# EAGLE library part FEEDER_STANDARD_CP2104 (library kxnStandard_interface)
CP2104 - USB to UART Bridge VDD Output: 3.45V
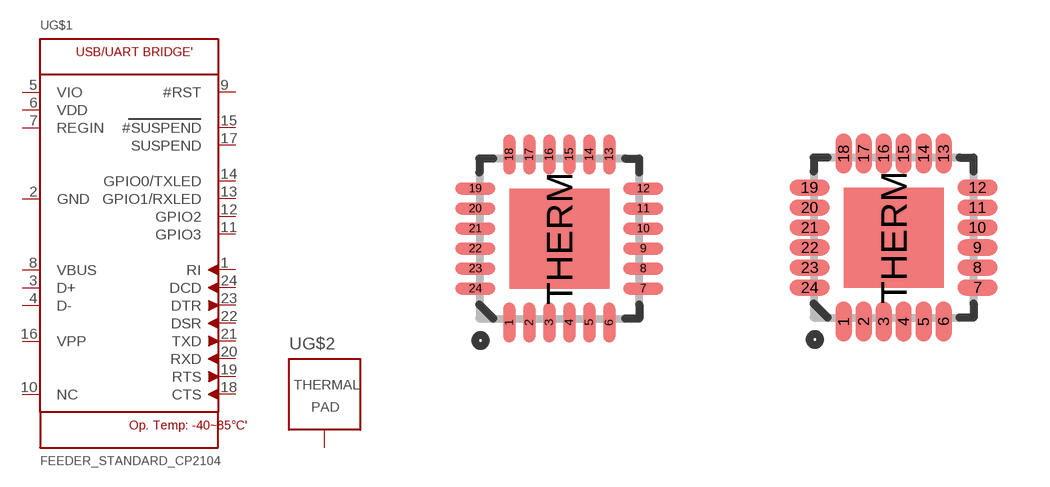
[diagram p1: symbol with the pads of KAYO_FEEDER_QFN24_4MM_SMSC; footprints KAYO_FEEDER_QFN24_4MM_SMSC, KAYO_QFN24_PROTO]

Designator prefix U; gates G$1=MICROBUILDER_CP2104 G$2=MICROBUILDER_THERMAL-SLUG

## FEEDER_STANDARD_CP2104 (CC_SHOP: CongCo)  [KAYO_FEEDER_QFN24_4MM_SMSC]
1  G$1:RI  in
2  G$1:GND  pwr
3  G$1:D+
4  G$1:D-
5  G$1:VIO  pwr
6  G$1:VDD  pwr
7  G$1:REGIN  pwr
8  G$1:VBUS  pwr
9  G$1:#RST
10  G$1:NC  nc
11  G$1:GPIO3
12  G$1:GPIO2
13  G$1:GPIO1/RXLED
14  G$1:GPIO0/TXLED
15  G$1:#SUSPEND  out
16  G$1:VPP
17  G$1:SUSPEND  out
18  G$1:CTS  in
19  G$1:RTS  out
20  G$1:RXD  in
21  G$1:TXD  out
22  G$1:DSR  in
23  G$1:DTR  out
24  G$1:DCD  in
THERM  G$2:TP  pwr

## FEEDER_STANDARD_CP2104_PROTOTYPE (CC_SHOP: CongCo)  [KAYO_QFN24_PROTO]
Pads as for KAYO_FEEDER_QFN24_4MM_SMSC

## Footprint KAYO_FEEDER_QFN24_4MM_SMSC (pad centres in mm)
smd 0.3 x 1: 1 -1.25,-2.1; 2 -0.75,-2.1; 3 -0.25,-2.1; 4 0.25,-2.1; 5 0.75,-2.1; 6 1.25,-2.1; 13 1.25,2.1; 14 0.75,2.1; 15 0.25,2.1; 16 -0.25,2.1; 17 -0.75,2.1; 18 -1.25,2.1
smd 1 x 0.3: 7 2.1,-1.25; 8 2.1,-0.75; 9 2.1,-0.25; 10 2.1,0.25; 11 2.1,0.75; 12 2.1,1.25; 19 -2.1,1.25; 20 -2.1,0.75; 21 -2.1,0.25; 22 -2.1,-0.25; 23 -2.1,-0.75; 24 -2.1,-1.25
smd 2.5 x 2.5: THERM 0,0

## Footprint KAYO_QFN24_PROTO (pad centres in mm)
smd 0.4 x 1: 1 -1.25,-2.1; 2 -0.75,-2.1; 3 -0.25,-2.1; 4 0.25,-2.1; 5 0.75,-2.1; 6 1.25,-2.1; 13 1.25,2.1; 14 0.75,2.1; 15 0.25,2.1; 16 -0.25,2.1; 17 -0.75,2.1; 18 -1.25,2.1
smd 1 x 0.4: 7 2.1,-1.25; 8 2.1,-0.75; 9 2.1,-0.25; 10 2.1,0.25; 11 2.1,0.75; 12 2.1,1.25; 19 -2.1,1.25; 20 -2.1,0.75; 21 -2.1,0.25; 22 -2.1,-0.25; 23 -2.1,-0.75; 24 -2.1,-1.25
smd 2.5 x 2.5: THERM 0,0